# Altium integrated library ESP32-S2-MINI-1U.IntLib: 1 symbol
Pins are listed as number, name and electrical type; pins without a type are passive.

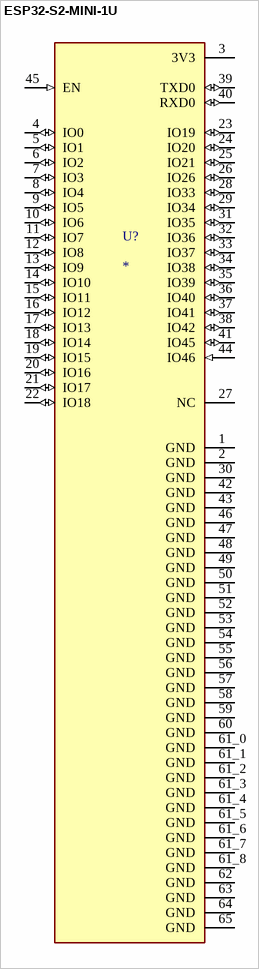
[diagram p0: symbol ESP32-S2-MINI-1U]

## ESP32-S2-MINI-1U
designator U?
WiFi 802.11b/g/n Transceiver Module 2.412GHz ~ 2.484GHz Antenna Not Included Surface Mount; MP: ESP32-S2-MINI-1U; MF: Espressif Systems; Price: None; SnapEDA_Link: https://www.snapeda.com/parts/ESP32-S2-MINI-1U/Espressif+Systems/view-part/?ref=snap; Check_prices: https://www.snapeda.com/parts/ESP32-S2-MINI-1U/Espressif+Systems/view-part/?ref=eda; Availability: In Stock; Value: *; Purchase-URL: https://pricing.snapeda.com/search/part/ESP32-S2-MINI-1U/?ref=eda; Package: VFQFN-56 Espressif Systems
footprint XCVR_ESP32-S2-MINI-1U
pins: 1 GND (power), 2 GND (power), 3 3V3 (power), 4 IO0 (io), 5 IO1 (io), 6 IO2 (io), 7 IO3 (io), 8 IO4 (io), 9 IO5 (io), 10 IO6 (io), 11 IO7 (io), 12 IO8 (io), 13 IO9 (io), 14 IO10 (io), 15 IO11 (io), 16 IO12 (io), 17 IO13 (io), 18 IO14 (io), 19 IO15 (io), 20 IO16 (io), 21 IO17 (io), 22 IO18 (io), 23 IO19 (io), 24 IO20 (io), 25 IO21 (io), 26 IO26 (io), 27 NC, 28 IO33 (io), 29 IO34 (io), 30 GND (power), 31 IO35 (io), 32 IO36 (io), 33 IO37 (io), 34 IO38 (io), 35 IO39 (io), 36 IO40 (io), 37 IO41 (io), 38 IO42 (io), 39 TXD0 (io), 40 RXD0 (io), 41 IO45 (io), 42 GND (power), 43 GND (power), 44 IO46 (in), 45 EN (in), 46 GND (power), 47 GND (power), 48 GND (power), 49 GND (power), 50 GND (power), 51 GND (power), 52 GND (power), 53 GND (power), 54 GND (power), 55 GND (power), 56 GND (power), 57 GND (power), 58 GND (power), 59 GND (power), 60 GND (power), 61_0 GND (power), 61_1 GND (power), 61_2 GND (power), 61_3 GND (power), 61_4 GND (power), 61_5 GND (power), 61_6 GND (power), 61_7 GND (power), 61_8 GND (power), 62 GND (power), 63 GND (power), 64 GND (power), 65 GND (power)